# Altium footprint library Miscellaneous.PcbLib: 33 footprints (part 3 of 3)
Each footprint in its own frame and in the unit in brackets; x right, y up, seen from the top. Pads: shape width x height; smd on the part's side, far side on the other; paste and mask are expansions set on the pad; w line width, h text height; cw(c..) or ccw(c..) is an arc to the next point about the centre after c.
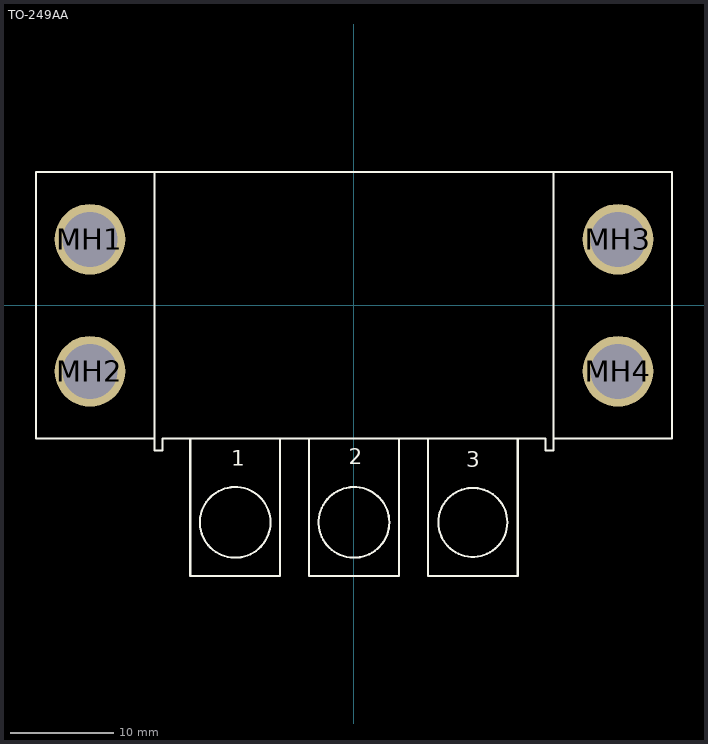
[diagram p2: the footprint, top view; thin cyan lines are the x and y axes]

## TO-249AA [mm] "Rectangular Flange Mount/TO-249-AA; 3 Terminals; Body 61.21 x 25.65 x 10.16 mm  (LxWxH max)"
height 10.16
pads (4):
  round 6.8 hole 5.3: MH1(-25.4,6.35) MH2(-25.4,-6.35) MH3(25.4,6.35) MH4(25.4,-6.35)
Top Overlay:
  circle w0.2: c-11.43,-20.877 r3.4
  circle w0.2: c0,-20.877 r3.4
  circle w0.2: c11.43,-20.877 r3.318
  lines w0.2: -19.177,12.827 -19.177,-12.827 ; -15.75,-12.827 -15.75,-26.037 -7.11,-26.037 -7.11,-12.827 ; -4.32,-12.827 -4.32,-26.037 4.32,-26.037 4.32,-12.827 ; 7.11,-12.827 7.11,-26.037 15.75,-26.037 15.75,-12.827 ; 19.177,12.827 19.177,-12.827 ; -19.177,-12.827 -30.607,-12.827 -30.607,12.827 30.607,12.827 30.607,-12.827 19.177,-12.827 ; -19.177,-12.827 -19.177,-13.967 -18.427,-13.967 -18.427,-12.827 18.427,-12.827 18.427,-13.967 19.177,-13.967 19.177,-12.827
  text "1" at -11.794,-15.431 h1.5
  text "2" at -0.497,-15.276 h1.5
  text "3" at 10.799,-15.586 h1.5